# Altium integrated library Linear Technology Power Management LED Driver ICs.IntLib: 490 symbols (part 37 of 48)
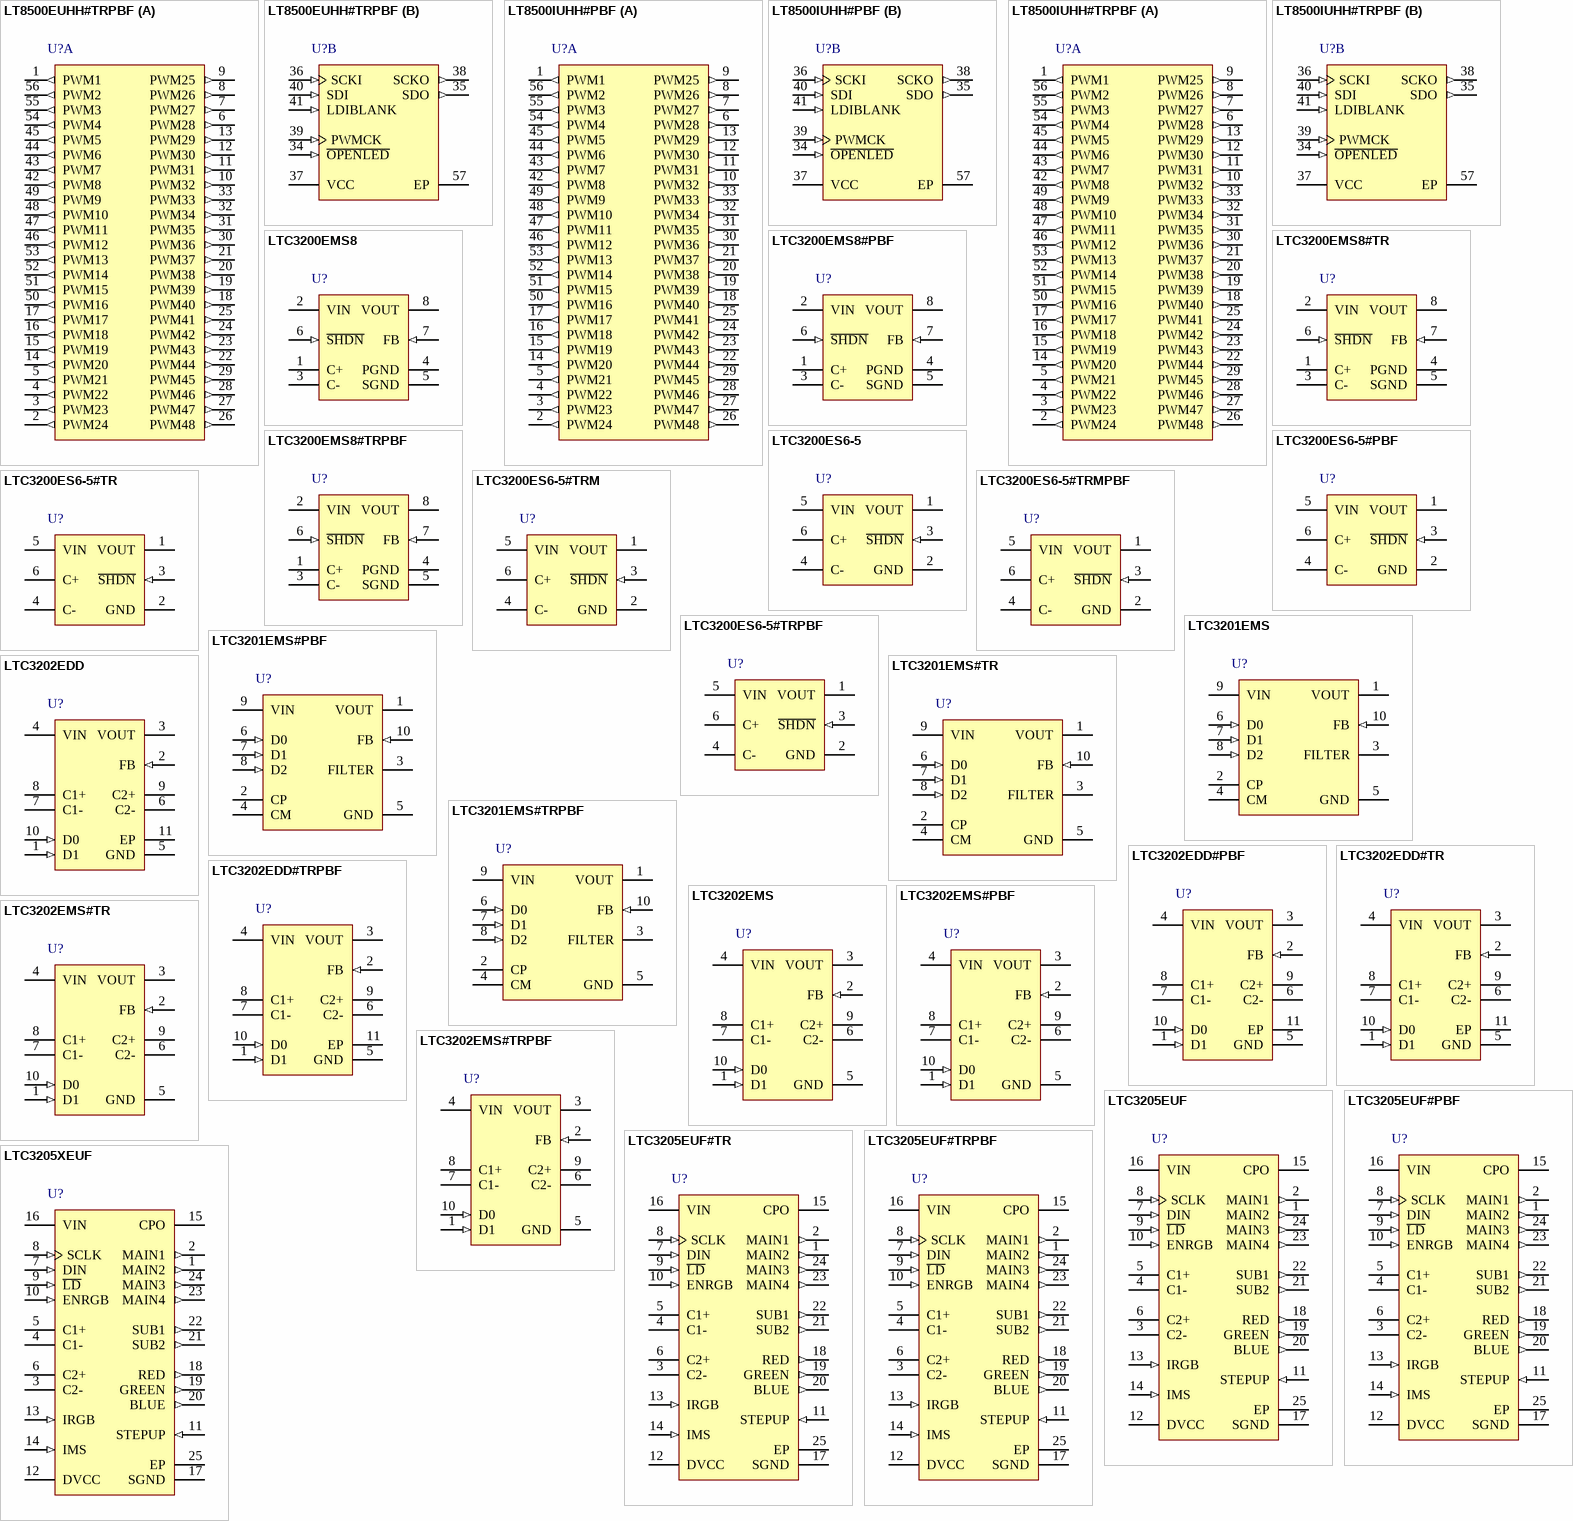
[diagram p56: symbols LT8500EUHH#TRPBF to LTC3205XEUF]

## LTC3201EMS#PBF
designator U?
Ultralow Noise, White LED Driver, 2.7 to 4.5 V Vin, 4.5 V Vout MAX, 10-pin SOP (MS-10), -40 to 85 degC, Pb-Free; Manufacturer: Linear Technology; PartNumber: LTC3201EMS#PBF; Topology: Charge Pump, LED Driver; Vin Min(V): 2.7; PackageVersion: Rev. E, 06/2010; PackageReference: MS-10; PackageDescription: 10-Pin Plastic MSOP, Body 3 x 3 mm, Pitch 0.5 mm; Supplier 1: Digi-Key; Supplier Part Number 1: LTC3201EMS#PBF-ND; RoHS: TRUE; Mounting Technology: Surface Mount; ComponentLink1Description: Manufacturer URL; ComponentLink1URL: http://www.linear.com/; ComponentLink2Description: Datasheet; ComponentLink2URL: http://cds.linear.com/docs/en/datasheet/3201f.pdf; ComponentLink3Description: Package Specification; ComponentLink3URL: http://cds.linear.com/docs/en/packaging/05081661_F_MS.pdf
footprint LT-MS-10_N (SOP, 10-Leads, Body 3.1x3.1mm, Pitch 0.5mm, IPC Medium Density)
footprint LT-MS-10_L (SOP, 10-Leads, Body 3.1x3.1mm, Pitch 0.5mm, IPC High Density)
footprint LT-MS-10_M (SOP, 10-Leads, Body 3.1x3.1mm, Pitch 0.5mm, IPC Low Density)
pins: 1 VOUT (power) "Charge Pump Output. Bypass with a 1uF ceramic capacitor to GND.", 2 CP "Flying Capacitor Positive Terminal.", 3 FILTER "Input Noise Filter Terminal. Bypass with a 0.22uF high resonant frequency ceramic capacitor to GND. Place filter capacitor less than 1/8" from device.", 4 CM "Flying Capacitor Negative Terminal.", 5 GND (power) "Ground. Connect to a ground plane for best performance.", 6 D0 (in) "Current Control DAC LSB Input.", 7 D1 (in) "Current Control DAC Bit 1 Input.", 8 D2 (in) "Current Control DAC MSB Input. Inputs D0 to D2 program a 3-bit DAC output which is used as the internal reference voltage. The DAC output reference voltage is used to regulate amount of current flowing through the LEDs. An (See Datasheet)", 9 VIN (power) "Input Voltage. VIN may be between 2.7V and 4.5V. Bypass VIN with a 1uF low ESR capacitor to ground.", 10 FB (in) "Charge Pump Feedback Input. This pin acts as a sense pin for IOUT. Connect a sense resistor between FB and GND to set the output current. IOUT will be adjusted until VFB = internal DAC output reference."

## LTC3201EMS#TR
designator U?
Ultralow Noise, White LED Driver, 2.7 to 4.5 V Vin, 4.5 V Vout MAX, 10-pin SOP (MS-10), -40 to 85 degC, Tape and Reel; Manufacturer: Linear Technology; PartNumber: LTC3201EMS#TR; Topology: Charge Pump, LED Driver; Vin Min(V): 2.7; PackageVersion: Rev. E, 06/2010; PackageReference: MS-10; PackageDescription: 10-Pin Plastic MSOP, Body 3 x 3 mm, Pitch 0.5 mm; Supplier 1: Digi-Key; Supplier Part Number 1: LTC3201EMSTR-ND; Packing: Tape and Reel; RoHS: FALSE; Mounting Technology: Surface Mount; ComponentLink1Description: Manufacturer URL; ComponentLink1URL: http://www.linear.com/; ComponentLink2Description: Datasheet; ComponentLink2URL: http://cds.linear.com/docs/en/datasheet/3201f.pdf; ComponentLink3Description: Package Specification; ComponentLink3URL: http://cds.linear.com/docs/en/packaging/05081661_F_MS.pdf
footprint LT-MS-10_N (SOP, 10-Leads, Body 3.1x3.1mm, Pitch 0.5mm, IPC Medium Density)
footprint LT-MS-10_L (SOP, 10-Leads, Body 3.1x3.1mm, Pitch 0.5mm, IPC High Density)
footprint LT-MS-10_M (SOP, 10-Leads, Body 3.1x3.1mm, Pitch 0.5mm, IPC Low Density)
pins: 1 VOUT (power) "Charge Pump Output. Bypass with a 1uF ceramic capacitor to GND.", 2 CP "Flying Capacitor Positive Terminal.", 3 FILTER "Input Noise Filter Terminal. Bypass with a 0.22uF high resonant frequency ceramic capacitor to GND. Place filter capacitor less than 1/8" from device.", 4 CM "Flying Capacitor Negative Terminal.", 5 GND (power) "Ground. Connect to a ground plane for best performance.", 6 D0 (in) "Current Control DAC LSB Input.", 7 D1 (in) "Current Control DAC Bit 1 Input.", 8 D2 (in) "Current Control DAC MSB Input. Inputs D0 to D2 program a 3-bit DAC output which is used as the internal reference voltage. The DAC output reference voltage is used to regulate amount of current flowing through the LEDs. An (See Datasheet)", 9 VIN (power) "Input Voltage. VIN may be between 2.7V and 4.5V. Bypass VIN with a 1uF low ESR capacitor to ground.", 10 FB (in) "Charge Pump Feedback Input. This pin acts as a sense pin for IOUT. Connect a sense resistor between FB and GND to set the output current. IOUT will be adjusted until VFB = internal DAC output reference."

## LTC3201EMS#TRPBF
designator U?
Ultralow Noise, White LED Driver, 2.7 to 4.5 V Vin, 4.5 V Vout MAX, 10-pin SOP (MS-10), -40 to 85 degC, Pb-Free, Tape and Reel; Manufacturer: Linear Technology; PartNumber: LTC3201EMS#TRPBF; Topology: Charge Pump, LED Driver; Vin Min(V): 2.7; PackageVersion: Rev. E, 06/2010; PackageReference: MS-10; PackageDescription: 10-Pin Plastic MSOP, Body 3 x 3 mm, Pitch 0.5 mm; Supplier 1: Digi-Key; Supplier Part Number 1: LTC3201EMS#TRPBF-ND; Packing: Tape and Reel; RoHS: TRUE; Mounting Technology: Surface Mount; ComponentLink1Description: Manufacturer URL; ComponentLink1URL: http://www.linear.com/; ComponentLink2Description: Datasheet; ComponentLink2URL: http://cds.linear.com/docs/en/datasheet/3201f.pdf; ComponentLink3Description: Package Specification; ComponentLink3URL: http://cds.linear.com/docs/en/packaging/05081661_F_MS.pdf
footprint LT-MS-10_N (SOP, 10-Leads, Body 3.1x3.1mm, Pitch 0.5mm, IPC Medium Density)
footprint LT-MS-10_L (SOP, 10-Leads, Body 3.1x3.1mm, Pitch 0.5mm, IPC High Density)
footprint LT-MS-10_M (SOP, 10-Leads, Body 3.1x3.1mm, Pitch 0.5mm, IPC Low Density)
pins: 1 VOUT (power) "Charge Pump Output. Bypass with a 1uF ceramic capacitor to GND.", 2 CP "Flying Capacitor Positive Terminal.", 3 FILTER "Input Noise Filter Terminal. Bypass with a 0.22uF high resonant frequency ceramic capacitor to GND. Place filter capacitor less than 1/8" from device.", 4 CM "Flying Capacitor Negative Terminal.", 5 GND (power) "Ground. Connect to a ground plane for best performance.", 6 D0 (in) "Current Control DAC LSB Input.", 7 D1 (in) "Current Control DAC Bit 1 Input.", 8 D2 (in) "Current Control DAC MSB Input. Inputs D0 to D2 program a 3-bit DAC output which is used as the internal reference voltage. The DAC output reference voltage is used to regulate amount of current flowing through the LEDs. An (See Datasheet)", 9 VIN (power) "Input Voltage. VIN may be between 2.7V and 4.5V. Bypass VIN with a 1uF low ESR capacitor to ground.", 10 FB (in) "Charge Pump Feedback Input. This pin acts as a sense pin for IOUT. Connect a sense resistor between FB and GND to set the output current. IOUT will be adjusted until VFB = internal DAC output reference."

## LTC3202EDD
designator U?
Low Noise, Fractional White LED Driver, 2.7 to 4.5 V Vin, 4.5 V Vout MAX, 10-pin SON (DD-10), -40 to 85 degC; Manufacturer: Linear Technology; PartNumber: LTC3202EDD; Topology: Charge Pump, LED Driver; Vin Min(V): 2.7; PackageVersion: Rev. C, 06/2010; PackageReference: DD-10; PackageDescription: 10-Pin Plastic DFN, Body 3 x 3 mm, Pitch 0.5 mm; Supplier 1: Digi-Key; Supplier Part Number 1: LTC3202EDD-ND; RoHS: FALSE; Mounting Technology: Surface Mount; Code_JEDEC: MO-229; ComponentLink1Description: Manufacturer URL; ComponentLink1URL: http://www.linear.com/; ComponentLink2Description: Datasheet; ComponentLink2URL: http://cds.linear.com/docs/en/datasheet/3202fa.pdf; ComponentLink3Description: Package Specification; ComponentLink3URL: http://cds.linear.com/docs/en/packaging/DFN_10_05-08-1699.pdf
footprint LT-DD-10_V (SON, 10-Leads, Body 3x3mm, Pitch 0.5mm, Thermal Pad 2.38x1.65mm)
pins: 1 D1 (in) "Control Inputs. D0 and D1 determine the set point voltage of the FB pin (see Table 1).", 2 FB (in) "FB is the Feedback Input for the Regulation Control Loop.", 3 VOUT (power) "VOUT is the Output of the Charge Pump. A low impedance 1uF X5R or X7R ceramic capacitor is required from VOUT to GND.", 4 VIN (power) "Input Supply Voltage. VIN should be bypassed with a 1uF to 4.7uF low impedance ceramic capacitor.", 5 GND (power) "Ground for the Charge Pump and Control Circuitry. This pin should be connected directly to a low impedance ground plane.", 6 C2- "Charge Pump Flying Capacitor Pins. A 1uF X5R or X7R ceramic capacitor should be connected from C1+ to C1- and from C2+ to C2-.", 7 C1- "Charge Pump Flying Capacitor Pins. A 1uF X5R or X7R ceramic capacitor should be connected from C1+ to C1- and from C2+ to C2-.", 8 C1+ "Charge Pump Flying Capacitor Pins. A 1uF X5R or X7R ceramic capacitor should be connected from C1+ to C1- and from C2+ to C2-.", 9 C2+ "Charge Pump Flying Capacitor Pins. A 1uF X5R or X7R ceramic capacitor should be connected from C1+ to C1- and from C2+ to C2-.", 10 D0 (in) "Control Inputs. D0 and D1 determine the set point voltage of the FB pin (see Table 1).", 11 EP (power) "Power Ground for the Charge Pump. This pin must be connected directly to a low impedance ground plane."

## LTC3202EDD#PBF
designator U?
Low Noise, Fractional White LED Driver, 2.7 to 4.5 V Vin, 4.5 V Vout MAX, 10-pin SON (DD-10), -40 to 85 degC, Pb-Free; Manufacturer: Linear Technology; PartNumber: LTC3202EDD#PBF; Topology: Charge Pump, LED Driver; Vin Min(V): 2.7; PackageVersion: Rev. C, 06/2010; PackageReference: DD-10; PackageDescription: 10-Pin Plastic DFN, Body 3 x 3 mm, Pitch 0.5 mm; Supplier 1: Digi-Key; Supplier Part Number 1: LTC3202EDD#PBF-ND; Supplier 2: Farnell; Supplier Part Number 2: 1866348; Supplier 3: Newark; Supplier Part Number 3: 56M7330; RoHS: TRUE; Mounting Technology: Surface Mount; Code_JEDEC: MO-229; ComponentLink1Description: Manufacturer URL; ComponentLink1URL: http://www.linear.com/; ComponentLink2Description: Datasheet; ComponentLink2URL: http://cds.linear.com/docs/en/datasheet/3202fa.pdf; ComponentLink3Description: Package Specification; ComponentLink3URL: http://cds.linear.com/docs/en/packaging/DFN_10_05-08-1699.pdf
footprint LT-DD-10_V (SON, 10-Leads, Body 3x3mm, Pitch 0.5mm, Thermal Pad 2.38x1.65mm)
pins: 1 D1 (in) "Control Inputs. D0 and D1 determine the set point voltage of the FB pin (see Table 1).", 2 FB (in) "FB is the Feedback Input for the Regulation Control Loop.", 3 VOUT (power) "VOUT is the Output of the Charge Pump. A low impedance 1uF X5R or X7R ceramic capacitor is required from VOUT to GND.", 4 VIN (power) "Input Supply Voltage. VIN should be bypassed with a 1uF to 4.7uF low impedance ceramic capacitor.", 5 GND (power) "Ground for the Charge Pump and Control Circuitry. This pin should be connected directly to a low impedance ground plane.", 6 C2- "Charge Pump Flying Capacitor Pins. A 1uF X5R or X7R ceramic capacitor should be connected from C1+ to C1- and from C2+ to C2-.", 7 C1- "Charge Pump Flying Capacitor Pins. A 1uF X5R or X7R ceramic capacitor should be connected from C1+ to C1- and from C2+ to C2-.", 8 C1+ "Charge Pump Flying Capacitor Pins. A 1uF X5R or X7R ceramic capacitor should be connected from C1+ to C1- and from C2+ to C2-.", 9 C2+ "Charge Pump Flying Capacitor Pins. A 1uF X5R or X7R ceramic capacitor should be connected from C1+ to C1- and from C2+ to C2-.", 10 D0 (in) "Control Inputs. D0 and D1 determine the set point voltage of the FB pin (see Table 1).", 11 EP (power) "Power Ground for the Charge Pump. This pin must be connected directly to a low impedance ground plane."

## LTC3202EDD#TR
designator U?
Low Noise, Fractional White LED Driver, 2.7 to 4.5 V Vin, 4.5 V Vout MAX, 10-pin SON (DD-10), -40 to 85 degC, Tape and Reel; Manufacturer: Linear Technology; PartNumber: LTC3202EDD#TR; Topology: Charge Pump, LED Driver; Vin Min(V): 2.7; PackageVersion: Rev. C, 06/2010; PackageReference: DD-10; PackageDescription: 10-Pin Plastic DFN, Body 3 x 3 mm, Pitch 0.5 mm; Supplier 1: Digi-Key; Supplier Part Number 1: LTC3202EDD#TR-ND; Packing: Tape and Reel; RoHS: FALSE; Mounting Technology: Surface Mount; Code_JEDEC: MO-229; ComponentLink1Description: Manufacturer URL; ComponentLink1URL: http://www.linear.com/; ComponentLink2Description: Datasheet; ComponentLink2URL: http://cds.linear.com/docs/en/datasheet/3202fa.pdf; ComponentLink3Description: Package Specification; ComponentLink3URL: http://cds.linear.com/docs/en/packaging/DFN_10_05-08-1699.pdf
footprint LT-DD-10_V (SON, 10-Leads, Body 3x3mm, Pitch 0.5mm, Thermal Pad 2.38x1.65mm)
pins: 1 D1 (in) "Control Inputs. D0 and D1 determine the set point voltage of the FB pin (see Table 1).", 2 FB (in) "FB is the Feedback Input for the Regulation Control Loop.", 3 VOUT (power) "VOUT is the Output of the Charge Pump. A low impedance 1uF X5R or X7R ceramic capacitor is required from VOUT to GND.", 4 VIN (power) "Input Supply Voltage. VIN should be bypassed with a 1uF to 4.7uF low impedance ceramic capacitor.", 5 GND (power) "Ground for the Charge Pump and Control Circuitry. This pin should be connected directly to a low impedance ground plane.", 6 C2- "Charge Pump Flying Capacitor Pins. A 1uF X5R or X7R ceramic capacitor should be connected from C1+ to C1- and from C2+ to C2-.", 7 C1- "Charge Pump Flying Capacitor Pins. A 1uF X5R or X7R ceramic capacitor should be connected from C1+ to C1- and from C2+ to C2-.", 8 C1+ "Charge Pump Flying Capacitor Pins. A 1uF X5R or X7R ceramic capacitor should be connected from C1+ to C1- and from C2+ to C2-.", 9 C2+ "Charge Pump Flying Capacitor Pins. A 1uF X5R or X7R ceramic capacitor should be connected from C1+ to C1- and from C2+ to C2-.", 10 D0 (in) "Control Inputs. D0 and D1 determine the set point voltage of the FB pin (see Table 1).", 11 EP (power) "Power Ground for the Charge Pump. This pin must be connected directly to a low impedance ground plane."

## LTC3202EDD#TRPBF
designator U?
Low Noise, Fractional White LED Driver, 2.7 to 4.5 V Vin, 4.5 V Vout MAX, 10-pin SON (DD-10), -40 to 85 degC, Pb-Free, Tape and Reel; Manufacturer: Linear Technology; PartNumber: LTC3202EDD#TRPBF; Topology: Charge Pump, LED Driver; Vin Min(V): 2.7; PackageVersion: Rev. C, 06/2010; PackageReference: DD-10; PackageDescription: 10-Pin Plastic DFN, Body 3 x 3 mm, Pitch 0.5 mm; Supplier 1: Digi-Key; Supplier Part Number 1: LTC3202EDD#TRPBF-ND; Packing: Tape and Reel; RoHS: TRUE; Mounting Technology: Surface Mount; Code_JEDEC: MO-229; ComponentLink1Description: Manufacturer URL; ComponentLink1URL: http://www.linear.com/; ComponentLink2Description: Datasheet; ComponentLink2URL: http://cds.linear.com/docs/en/datasheet/3202fa.pdf; ComponentLink3Description: Package Specification; ComponentLink3URL: http://cds.linear.com/docs/en/packaging/DFN_10_05-08-1699.pdf
footprint LT-DD-10_V (SON, 10-Leads, Body 3x3mm, Pitch 0.5mm, Thermal Pad 2.38x1.65mm)
pins: 1 D1 (in) "Control Inputs. D0 and D1 determine the set point voltage of the FB pin (see Table 1).", 2 FB (in) "FB is the Feedback Input for the Regulation Control Loop.", 3 VOUT (power) "VOUT is the Output of the Charge Pump. A low impedance 1uF X5R or X7R ceramic capacitor is required from VOUT to GND.", 4 VIN (power) "Input Supply Voltage. VIN should be bypassed with a 1uF to 4.7uF low impedance ceramic capacitor.", 5 GND (power) "Ground for the Charge Pump and Control Circuitry. This pin should be connected directly to a low impedance ground plane.", 6 C2- "Charge Pump Flying Capacitor Pins. A 1uF X5R or X7R ceramic capacitor should be connected from C1+ to C1- and from C2+ to C2-.", 7 C1- "Charge Pump Flying Capacitor Pins. A 1uF X5R or X7R ceramic capacitor should be connected from C1+ to C1- and from C2+ to C2-.", 8 C1+ "Charge Pump Flying Capacitor Pins. A 1uF X5R or X7R ceramic capacitor should be connected from C1+ to C1- and from C2+ to C2-.", 9 C2+ "Charge Pump Flying Capacitor Pins. A 1uF X5R or X7R ceramic capacitor should be connected from C1+ to C1- and from C2+ to C2-.", 10 D0 (in) "Control Inputs. D0 and D1 determine the set point voltage of the FB pin (see Table 1).", 11 EP (power) "Power Ground for the Charge Pump. This pin must be connected directly to a low impedance ground plane."

## LTC3202EMS
designator U?
Low Noise, Fractional White LED Driver, 2.7 to 4.5 V Vin, 4.5 V Vout MAX, 10-pin SOP (MS-10), -40 to 85 degC; Manufacturer: Linear Technology; PartNumber: LTC3202EMS; Topology: Charge Pump, LED Driver; Vin Min(V): 2.7; PackageVersion: Rev. E, 06/2010; PackageReference: MS-10; PackageDescription: 10-Pin Plastic MSOP, Body 3 x 3 mm, Pitch 0.5 mm; Supplier 1: Digi-Key; Supplier Part Number 1: LTC3202EMS-ND; RoHS: FALSE; Mounting Technology: Surface Mount; ComponentLink1Description: Manufacturer URL; ComponentLink1URL: http://www.linear.com/; ComponentLink2Description: Datasheet; ComponentLink2URL: http://cds.linear.com/docs/en/datasheet/3202fa.pdf; ComponentLink3Description: Package Specification; ComponentLink3URL: http://cds.linear.com/docs/en/packaging/05081661_F_MS.pdf
footprint LT-MS-10_N (SOP, 10-Leads, Body 3.1x3.1mm, Pitch 0.5mm, IPC Medium Density)
footprint LT-MS-10_L (SOP, 10-Leads, Body 3.1x3.1mm, Pitch 0.5mm, IPC High Density)
footprint LT-MS-10_M (SOP, 10-Leads, Body 3.1x3.1mm, Pitch 0.5mm, IPC Low Density)
pins: 1 D1 (in) "Control Inputs. D0 and D1 determine the set point voltage of the FB pin (see Table 1).", 2 FB (in) "FB is the Feedback Input for the Regulation Control Loop.", 3 VOUT (power) "VOUT is the Output of the Charge Pump. A low impedance 1uF X5R or X7R ceramic capacitor is required from VOUT to GND.", 4 VIN (power) "Input Supply Voltage. VIN should be bypassed with a 1uF to 4.7uF low impedance ceramic capacitor.", 5 GND (power) "Ground for the Charge Pump and Control Circuitry. This pin should be connected directly to a low impedance ground plane.", 6 C2- "Charge Pump Flying Capacitor Pins. A 1uF X5R or X7R ceramic capacitor should be connected from C1+ to C1- and from C2+ to C2-.", 7 C1- "Charge Pump Flying Capacitor Pins. A 1uF X5R or X7R ceramic capacitor should be connected from C1+ to C1- and from C2+ to C2-.", 8 C1+ "Charge Pump Flying Capacitor Pins. A 1uF X5R or X7R ceramic capacitor should be connected from C1+ to C1- and from C2+ to C2-.", 9 C2+ "Charge Pump Flying Capacitor Pins. A 1uF X5R or X7R ceramic capacitor should be connected from C1+ to C1- and from C2+ to C2-.", 10 D0 (in) "Control Inputs. D0 and D1 determine the set point voltage of the FB pin (see Table 1)."

## LTC3202EMS#PBF
designator U?
Low Noise, Fractional White LED Driver, 2.7 to 4.5 V Vin, 4.5 V Vout MAX, 10-pin SOP (MS-10), -40 to 85 degC, Pb-Free; Manufacturer: Linear Technology; PartNumber: LTC3202EMS#PBF; Topology: Charge Pump, LED Driver; Vin Min(V): 2.7; PackageVersion: Rev. E, 06/2010; PackageReference: MS-10; PackageDescription: 10-Pin Plastic MSOP, Body 3 x 3 mm, Pitch 0.5 mm; Supplier 1: Digi-Key; Supplier Part Number 1: LTC3202EMS#PBF-ND; RoHS: TRUE; Mounting Technology: Surface Mount; ComponentLink1Description: Manufacturer URL; ComponentLink1URL: http://www.linear.com/; ComponentLink2Description: Datasheet; ComponentLink2URL: http://cds.linear.com/docs/en/datasheet/3202fa.pdf; ComponentLink3Description: Package Specification; ComponentLink3URL: http://cds.linear.com/docs/en/packaging/05081661_F_MS.pdf
footprint LT-MS-10_N (SOP, 10-Leads, Body 3.1x3.1mm, Pitch 0.5mm, IPC Medium Density)
footprint LT-MS-10_L (SOP, 10-Leads, Body 3.1x3.1mm, Pitch 0.5mm, IPC High Density)
footprint LT-MS-10_M (SOP, 10-Leads, Body 3.1x3.1mm, Pitch 0.5mm, IPC Low Density)
pins: 1 D1 (in) "Control Inputs. D0 and D1 determine the set point voltage of the FB pin (see Table 1).", 2 FB (in) "FB is the Feedback Input for the Regulation Control Loop.", 3 VOUT (power) "VOUT is the Output of the Charge Pump. A low impedance 1uF X5R or X7R ceramic capacitor is required from VOUT to GND.", 4 VIN (power) "Input Supply Voltage. VIN should be bypassed with a 1uF to 4.7uF low impedance ceramic capacitor.", 5 GND (power) "Ground for the Charge Pump and Control Circuitry. This pin should be connected directly to a low impedance ground plane.", 6 C2- "Charge Pump Flying Capacitor Pins. A 1uF X5R or X7R ceramic capacitor should be connected from C1+ to C1- and from C2+ to C2-.", 7 C1- "Charge Pump Flying Capacitor Pins. A 1uF X5R or X7R ceramic capacitor should be connected from C1+ to C1- and from C2+ to C2-.", 8 C1+ "Charge Pump Flying Capacitor Pins. A 1uF X5R or X7R ceramic capacitor should be connected from C1+ to C1- and from C2+ to C2-.", 9 C2+ "Charge Pump Flying Capacitor Pins. A 1uF X5R or X7R ceramic capacitor should be connected from C1+ to C1- and from C2+ to C2-.", 10 D0 (in) "Control Inputs. D0 and D1 determine the set point voltage of the FB pin (see Table 1)."

## LTC3202EMS#TR
designator U?
Low Noise, Fractional White LED Driver, 2.7 to 4.5 V Vin, 4.5 V Vout MAX, 10-pin SOP (MS-10), -40 to 85 degC, Tape and Reel; Manufacturer: Linear Technology; PartNumber: LTC3202EMS#TR; Topology: Charge Pump, LED Driver; Vin Min(V): 2.7; PackageVersion: Rev. E, 06/2010; PackageReference: MS-10; PackageDescription: 10-Pin Plastic MSOP, Body 3 x 3 mm, Pitch 0.5 mm; Supplier 1: Digi-Key; Supplier Part Number 1: LTC3202EMSTR-ND; Packing: Tape and Reel; RoHS: FALSE; Mounting Technology: Surface Mount; ComponentLink1Description: Manufacturer URL; ComponentLink1URL: http://www.linear.com/; ComponentLink2Description: Datasheet; ComponentLink2URL: http://cds.linear.com/docs/en/datasheet/3202fa.pdf; ComponentLink3Description: Package Specification; ComponentLink3URL: http://cds.linear.com/docs/en/packaging/05081661_F_MS.pdf
footprint LT-MS-10_N (SOP, 10-Leads, Body 3.1x3.1mm, Pitch 0.5mm, IPC Medium Density)
footprint LT-MS-10_L (SOP, 10-Leads, Body 3.1x3.1mm, Pitch 0.5mm, IPC High Density)
footprint LT-MS-10_M (SOP, 10-Leads, Body 3.1x3.1mm, Pitch 0.5mm, IPC Low Density)
pins: 1 D1 (in) "Control Inputs. D0 and D1 determine the set point voltage of the FB pin (see Table 1).", 2 FB (in) "FB is the Feedback Input for the Regulation Control Loop.", 3 VOUT (power) "VOUT is the Output of the Charge Pump. A low impedance 1uF X5R or X7R ceramic capacitor is required from VOUT to GND.", 4 VIN (power) "Input Supply Voltage. VIN should be bypassed with a 1uF to 4.7uF low impedance ceramic capacitor.", 5 GND (power) "Ground for the Charge Pump and Control Circuitry. This pin should be connected directly to a low impedance ground plane.", 6 C2- "Charge Pump Flying Capacitor Pins. A 1uF X5R or X7R ceramic capacitor should be connected from C1+ to C1- and from C2+ to C2-.", 7 C1- "Charge Pump Flying Capacitor Pins. A 1uF X5R or X7R ceramic capacitor should be connected from C1+ to C1- and from C2+ to C2-.", 8 C1+ "Charge Pump Flying Capacitor Pins. A 1uF X5R or X7R ceramic capacitor should be connected from C1+ to C1- and from C2+ to C2-.", 9 C2+ "Charge Pump Flying Capacitor Pins. A 1uF X5R or X7R ceramic capacitor should be connected from C1+ to C1- and from C2+ to C2-.", 10 D0 (in) "Control Inputs. D0 and D1 determine the set point voltage of the FB pin (see Table 1)."

## LTC3202EMS#TRPBF
designator U?
Low Noise, Fractional White LED Driver, 2.7 to 4.5 V Vin, 4.5 V Vout MAX, 10-pin SOP (MS-10), -40 to 85 degC, Pb-Free, Tape and Reel; Manufacturer: Linear Technology; PartNumber: LTC3202EMS#TRPBF; Topology: Charge Pump, LED Driver; Vin Min(V): 2.7; PackageVersion: Rev. E, 06/2010; PackageReference: MS-10; PackageDescription: 10-Pin Plastic MSOP, Body 3 x 3 mm, Pitch 0.5 mm; Supplier 1: Digi-Key; Supplier Part Number 1: LTC3202EMS#TRPBF-ND; Packing: Tape and Reel; RoHS: TRUE; Mounting Technology: Surface Mount; ComponentLink1Description: Manufacturer URL; ComponentLink1URL: http://www.linear.com/; ComponentLink2Description: Datasheet; ComponentLink2URL: http://cds.linear.com/docs/en/datasheet/3202fa.pdf; ComponentLink3Description: Package Specification; ComponentLink3URL: http://cds.linear.com/docs/en/packaging/05081661_F_MS.pdf
footprint LT-MS-10_N (SOP, 10-Leads, Body 3.1x3.1mm, Pitch 0.5mm, IPC Medium Density)
footprint LT-MS-10_L (SOP, 10-Leads, Body 3.1x3.1mm, Pitch 0.5mm, IPC High Density)
footprint LT-MS-10_M (SOP, 10-Leads, Body 3.1x3.1mm, Pitch 0.5mm, IPC Low Density)
pins: 1 D1 (in) "Control Inputs. D0 and D1 determine the set point voltage of the FB pin (see Table 1).", 2 FB (in) "FB is the Feedback Input for the Regulation Control Loop.", 3 VOUT (power) "VOUT is the Output of the Charge Pump. A low impedance 1uF X5R or X7R ceramic capacitor is required from VOUT to GND.", 4 VIN (power) "Input Supply Voltage. VIN should be bypassed with a 1uF to 4.7uF low impedance ceramic capacitor.", 5 GND (power) "Ground for the Charge Pump and Control Circuitry. This pin should be connected directly to a low impedance ground plane.", 6 C2- "Charge Pump Flying Capacitor Pins. A 1uF X5R or X7R ceramic capacitor should be connected from C1+ to C1- and from C2+ to C2-.", 7 C1- "Charge Pump Flying Capacitor Pins. A 1uF X5R or X7R ceramic capacitor should be connected from C1+ to C1- and from C2+ to C2-.", 8 C1+ "Charge Pump Flying Capacitor Pins. A 1uF X5R or X7R ceramic capacitor should be connected from C1+ to C1- and from C2+ to C2-.", 9 C2+ "Charge Pump Flying Capacitor Pins. A 1uF X5R or X7R ceramic capacitor should be connected from C1+ to C1- and from C2+ to C2-.", 10 D0 (in) "Control Inputs. D0 and D1 determine the set point voltage of the FB pin (see Table 1)."

## LTC3205EUF
designator U?
Drives 4 Main LEDs, 2 Sub Display, 1 RGB, 2.8 to 4.5 V Vin, 4.5 V Vout MAX, 24-pin QFN (UF-24), -40 to 85 degC; Manufacturer: Linear Technology; PartNumber: LTC3205EUF; Topology: Charge Pump, LED Driver; Vin Min(V): 2.8; PackageVersion: Rev. B, 02/2012; PackageReference: UF24; PackageDescription: 24-Pin Plastic QFN, Body 4 x 4 mm, Pitch 0.5 mm; Supplier 1: Digi-Key; Supplier Part Number 1: LTC3205EUF-ND; RoHS: FALSE; Mounting Technology: Surface Mount; Code_JEDEC: MO-220; ComponentLink1Description: Manufacturer URL; ComponentLink1URL: http://www.linear.com/; ComponentLink2Description: Datasheet; ComponentLink2URL: http://cds.linear.com/docs/en/datasheet/3205f.pdf; ComponentLink3Description: Package Specification; ComponentLink3URL: http://cds.linear.com/docs/en/packaging/%28UF24%29%20QFN%2005-08-1697%20Rev%20B.pdf
footprint LT-UF-24_N (QFN, 24-Leads, Body 4.1x4.1mm, Pitch 0.5mm, Thermal Pad 2.45x2.45mm, IPC Medium Density)
footprint LT-UF-24_L (QFN, 24-Leads, Body 4.1x4.1mm, Pitch 0.5mm, Thermal Pad 2.45x2.45mm, IPC High Density)
footprint LT-UF-24_M (QFN, 24-Leads, Body 4.1x4.1mm, Pitch 0.5mm, Thermal Pad 2.45x2.45mm, IPC Low Density)
pins: 1 MAIN2 (out) "Current Source Outputs for the Main Display White LEDs. The current for the main display is controlled by the resistor on the IMS pin. The LEDs on the main display can be set to 100%, 50%, 25% or 0% of full-scale programmed (See Datasheet)", 2 MAIN1 (out) "Current Source Outputs for the Main Display White LEDs. The current for the main display is controlled by the resistor on the IMS pin. The LEDs on the main display can be set to 100%, 50%, 25% or 0% of full-scale programmed (See Datasheet)", 3 C2- "Charge Pump Flying Capacitor Pins. A 1uF X7R or X5R ceramic capacitor should be connected from C1+ to C1- and another from C2+ to C2-.", 4 C1- "Charge Pump Flying Capacitor Pins. A 1uF X7R or X5R ceramic capacitor should be connected from C1+ to C1- and another from C2+ to C2-.", 5 C1+ "Charge Pump Flying Capacitor Pins. A 1uF X7R or X5R ceramic capacitor should be connected from C1+ to C1- and another from C2+ to C2-.", 6 C2+ "Charge Pump Flying Capacitor Pins. A 1uF X7R or X5R ceramic capacitor should be connected from C1+ to C1- and another from C2+ to C2-.", 7 DIN (in) "Input Data for the 16-Bit Serial Port. Serial data is shifted in one bit per clock to control the LTC3205 (see Table 1). The logic level for DIN is referenced to DVCC.", 8 SCLK (in) "Clock Input for the 16-Bit Serial Port (see Figure 3). The logic level for SCLK is referenced to DVCC.", 9 ~{LD} (in) "Load Input for the 16-Bit Serial Port. Command data is loaded into the command latch on the falling edge of L\D\ (see Figure 3). The logic level for L\D\ is referenced to DVCC.", 10 ENRGB (in) "This pin is used to enable and disable the red, green and blue current sources. Once ENRGB is brought high, the LTC3205 illuminates the RGB display with the color combination that was previously programmed via the serial (See Datasheet)", 11 STEPUP (in) "A logic high on this pin forces the LTC3205’s charge pump to operate in 2:3 step-up mode, thereby eliminating any possibility of the device switching from 1:1 mode to 2:3 mode during critical communication periods. Th(See Datasheet)", 12 DVCC (power) "This pin sets the logic reference level of the LTC3205.", 13 IRGB (in) "This pin controls the amount of LED current at the RED, GREEN and BLUE LED pins. The IRGB pin servos to 1.223V when there is a resistor to ground. The current in the RED, GREEN and BLUE LEDs will be 400 times the current at (See Datasheet)", 14 IMS (in) "This pin controls the maximum amount of LED current in both the main and sub LED displays. The IMS pin servos to 1.223V when there is a resistor to ground. The currents in the main and sub display LEDs will be 100, 200 or (See Datasheet)", 15 CPO (power) "Output of the Charge Pump. This output should be used to power white, blue and "ture" green LEDs. Red LEDs can be powered from VIN or CPO. An X5R or X7R low impedance (ceramic) 1uF charge storage capacitor is required(See Datasheet)", 16 VIN (power) "Supply Voltage for the Charge Pump. The VIN pin should be connected directly to the battery and bypassed with a 1uF X5R or X7R ceramic capacitor.", 17 SGND (power) "Ground for the Control Logic. This pin should be connected directly to a low impedance ground plane.", 18 RED (out) "Current Source Outputs for the RGB Illuminator LEDs. The currents for the RGB LEDs are controlled by the resistor on the IRGB pin. The RGB LEDs can independently be set to any duty cycle from 0/15 through 15/15 under (See Datasheet)", 19 GREEN (out) "Current Source Outputs for the RGB Illuminator LEDs. The currents for the RGB LEDs are controlled by the resistor on the IRGB pin. The RGB LEDs can independently be set to any duty cycle from 0/15 through 15/15 under (See Datasheet)", 20 BLUE (out) "Current Source Outputs for the RGB Illuminator LEDs. The currents for the RGB LEDs are controlled by the resistor on the IRGB pin. The RGB LEDs can independently be set to any duty cycle from 0/15 through 15/15 under (See Datasheet)", 21 SUB2 (out) "Current Source Outputs for the Sub Display White LEDs. The current for the sub display is controlled by the resistor on the IMS pin. The LEDs on the sub display can be set to 100%, 50%, 25% or 0% of full scale under software (See Datasheet)", 22 SUB1 (out) "Current Source Outputs for the Sub Display White LEDs. The current for the sub display is controlled by the resistor on the IMS pin. The LEDs on the sub display can be set to 100%, 50%, 25% or 0% of full scale under software (See Datasheet)", 23 MAIN4 (out) "Current Source Outputs for the Main Display White LEDs. The current for the main display is controlled by the resistor on the IMS pin. The LEDs on the main display can be set to 100%, 50%, 25% or 0% of full-scale programmed (See Datasheet)", 24 MAIN3 (out) "Current Source Outputs for the Main Display White LEDs. The current for the main display is controlled by the resistor on the IMS pin. The LEDs on the main display can be set to 100%, 50%, 25% or 0% of full-scale programmed (See Datasheet)", 25 EP (power) "Power Ground for the Charge Pump. The exposed pad should be connected directly to a low impedance ground plane."

## LTC3205EUF#PBF
designator U?
Drives 4 Main LEDs, 2 Sub Display, 1 RGB, 2.8 to 4.5 V Vin, 4.5 V Vout MAX, 24-pin QFN (UF-24), -40 to 85 degC, Pb-Free; Manufacturer: Linear Technology; PartNumber: LTC3205EUF#PBF; Topology: Charge Pump, LED Driver; Vin Min(V): 2.8; PackageVersion: Rev. B, 02/2012; PackageReference: UF24; PackageDescription: 24-Pin Plastic QFN, Body 4 x 4 mm, Pitch 0.5 mm; Supplier 1: Digi-Key; Supplier Part Number 1: LTC3205EUF#PBF-ND; RoHS: TRUE; Mounting Technology: Surface Mount; Code_JEDEC: MO-220; ComponentLink1Description: Manufacturer URL; ComponentLink1URL: http://www.linear.com/; ComponentLink2Description: Datasheet; ComponentLink2URL: http://cds.linear.com/docs/en/datasheet/3205f.pdf; ComponentLink3Description: Package Specification; ComponentLink3URL: http://cds.linear.com/docs/en/packaging/%28UF24%29%20QFN%2005-08-1697%20Rev%20B.pdf
footprint LT-UF-24_N (QFN, 24-Leads, Body 4.1x4.1mm, Pitch 0.5mm, Thermal Pad 2.45x2.45mm, IPC Medium Density)
footprint LT-UF-24_L (QFN, 24-Leads, Body 4.1x4.1mm, Pitch 0.5mm, Thermal Pad 2.45x2.45mm, IPC High Density)
footprint LT-UF-24_M (QFN, 24-Leads, Body 4.1x4.1mm, Pitch 0.5mm, Thermal Pad 2.45x2.45mm, IPC Low Density)
pins: 1 MAIN2 (out) "Current Source Outputs for the Main Display White LEDs. The current for the main display is controlled by the resistor on the IMS pin. The LEDs on the main display can be set to 100%, 50%, 25% or 0% of full-scale programmed (See Datasheet)", 2 MAIN1 (out) "Current Source Outputs for the Main Display White LEDs. The current for the main display is controlled by the resistor on the IMS pin. The LEDs on the main display can be set to 100%, 50%, 25% or 0% of full-scale programmed (See Datasheet)", 3 C2- "Charge Pump Flying Capacitor Pins. A 1uF X7R or X5R ceramic capacitor should be connected from C1+ to C1- and another from C2+ to C2-.", 4 C1- "Charge Pump Flying Capacitor Pins. A 1uF X7R or X5R ceramic capacitor should be connected from C1+ to C1- and another from C2+ to C2-.", 5 C1+ "Charge Pump Flying Capacitor Pins. A 1uF X7R or X5R ceramic capacitor should be connected from C1+ to C1- and another from C2+ to C2-.", 6 C2+ "Charge Pump Flying Capacitor Pins. A 1uF X7R or X5R ceramic capacitor should be connected from C1+ to C1- and another from C2+ to C2-.", 7 DIN (in) "Input Data for the 16-Bit Serial Port. Serial data is shifted in one bit per clock to control the LTC3205 (see Table 1). The logic level for DIN is referenced to DVCC.", 8 SCLK (in) "Clock Input for the 16-Bit Serial Port (see Figure 3). The logic level for SCLK is referenced to DVCC.", 9 ~{LD} (in) "Load Input for the 16-Bit Serial Port. Command data is loaded into the command latch on the falling edge of L\D\ (see Figure 3). The logic level for L\D\ is referenced to DVCC.", 10 ENRGB (in) "This pin is used to enable and disable the red, green and blue current sources. Once ENRGB is brought high, the LTC3205 illuminates the RGB display with the color combination that was previously programmed via the serial (See Datasheet)", 11 STEPUP (in) "A logic high on this pin forces the LTC3205’s charge pump to operate in 2:3 step-up mode, thereby eliminating any possibility of the device switching from 1:1 mode to 2:3 mode during critical communication periods. Th(See Datasheet)", 12 DVCC (power) "This pin sets the logic reference level of the LTC3205.", 13 IRGB (in) "This pin controls the amount of LED current at the RED, GREEN and BLUE LED pins. The IRGB pin servos to 1.223V when there is a resistor to ground. The current in the RED, GREEN and BLUE LEDs will be 400 times the current at (See Datasheet)", 14 IMS (in) "This pin controls the maximum amount of LED current in both the main and sub LED displays. The IMS pin servos to 1.223V when there is a resistor to ground. The currents in the main and sub display LEDs will be 100, 200 or (See Datasheet)", 15 CPO (power) "Output of the Charge Pump. This output should be used to power white, blue and "ture" green LEDs. Red LEDs can be powered from VIN or CPO. An X5R or X7R low impedance (ceramic) 1uF charge storage capacitor is required(See Datasheet)", 16 VIN (power) "Supply Voltage for the Charge Pump. The VIN pin should be connected directly to the battery and bypassed with a 1uF X5R or X7R ceramic capacitor.", 17 SGND (power) "Ground for the Control Logic. This pin should be connected directly to a low impedance ground plane.", 18 RED (out) "Current Source Outputs for the RGB Illuminator LEDs. The currents for the RGB LEDs are controlled by the resistor on the IRGB pin. The RGB LEDs can independently be set to any duty cycle from 0/15 through 15/15 under (See Datasheet)", 19 GREEN (out) "Current Source Outputs for the RGB Illuminator LEDs. The currents for the RGB LEDs are controlled by the resistor on the IRGB pin. The RGB LEDs can independently be set to any duty cycle from 0/15 through 15/15 under (See Datasheet)", 20 BLUE (out) "Current Source Outputs for the RGB Illuminator LEDs. The currents for the RGB LEDs are controlled by the resistor on the IRGB pin. The RGB LEDs can independently be set to any duty cycle from 0/15 through 15/15 under (See Datasheet)", 21 SUB2 (out) "Current Source Outputs for the Sub Display White LEDs. The current for the sub display is controlled by the resistor on the IMS pin. The LEDs on the sub display can be set to 100%, 50%, 25% or 0% of full scale under software (See Datasheet)", 22 SUB1 (out) "Current Source Outputs for the Sub Display White LEDs. The current for the sub display is controlled by the resistor on the IMS pin. The LEDs on the sub display can be set to 100%, 50%, 25% or 0% of full scale under software (See Datasheet)", 23 MAIN4 (out) "Current Source Outputs for the Main Display White LEDs. The current for the main display is controlled by the resistor on the IMS pin. The LEDs on the main display can be set to 100%, 50%, 25% or 0% of full-scale programmed (See Datasheet)", 24 MAIN3 (out) "Current Source Outputs for the Main Display White LEDs. The current for the main display is controlled by the resistor on the IMS pin. The LEDs on the main display can be set to 100%, 50%, 25% or 0% of full-scale programmed (See Datasheet)", 25 EP (power) "Power Ground for the Charge Pump. The exposed pad should be connected directly to a low impedance ground plane."

## LTC3205EUF#TR
designator U?
Drives 4 Main LEDs, 2 Sub Display, 1 RGB, 2.8 to 4.5 V Vin, 4.5 V Vout MAX, 24-pin QFN (UF-24), -40 to 85 degC, Tape and Reel; Manufacturer: Linear Technology; PartNumber: LTC3205EUF#TR; Topology: Charge Pump, LED Driver; Vin Min(V): 2.8; PackageVersion: Rev. B, 02/2012; PackageReference: UF24; PackageDescription: 24-Pin Plastic QFN, Body 4 x 4 mm, Pitch 0.5 mm; Supplier 1: Digi-Key; Supplier Part Number 1: LTC3205EUF#TR-ND; Packing: Tape and Reel; RoHS: FALSE; Mounting Technology: Surface Mount; Code_JEDEC: MO-220; ComponentLink1Description: Manufacturer URL; ComponentLink1URL: http://www.linear.com/; ComponentLink2Description: Datasheet; ComponentLink2URL: http://cds.linear.com/docs/en/datasheet/3205f.pdf; ComponentLink3Description: Package Specification; ComponentLink3URL: http://cds.linear.com/docs/en/packaging/%28UF24%29%20QFN%2005-08-1697%20Rev%20B.pdf
footprint LT-UF-24_N (QFN, 24-Leads, Body 4.1x4.1mm, Pitch 0.5mm, Thermal Pad 2.45x2.45mm, IPC Medium Density)
footprint LT-UF-24_L (QFN, 24-Leads, Body 4.1x4.1mm, Pitch 0.5mm, Thermal Pad 2.45x2.45mm, IPC High Density)
footprint LT-UF-24_M (QFN, 24-Leads, Body 4.1x4.1mm, Pitch 0.5mm, Thermal Pad 2.45x2.45mm, IPC Low Density)
pins: 1 MAIN2 (out) "Current Source Outputs for the Main Display White LEDs. The current for the main display is controlled by the resistor on the IMS pin. The LEDs on the main display can be set to 100%, 50%, 25% or 0% of full-scale programmed (See Datasheet)", 2 MAIN1 (out) "Current Source Outputs for the Main Display White LEDs. The current for the main display is controlled by the resistor on the IMS pin. The LEDs on the main display can be set to 100%, 50%, 25% or 0% of full-scale programmed (See Datasheet)", 3 C2- "Charge Pump Flying Capacitor Pins. A 1uF X7R or X5R ceramic capacitor should be connected from C1+ to C1- and another from C2+ to C2-.", 4 C1- "Charge Pump Flying Capacitor Pins. A 1uF X7R or X5R ceramic capacitor should be connected from C1+ to C1- and another from C2+ to C2-.", 5 C1+ "Charge Pump Flying Capacitor Pins. A 1uF X7R or X5R ceramic capacitor should be connected from C1+ to C1- and another from C2+ to C2-.", 6 C2+ "Charge Pump Flying Capacitor Pins. A 1uF X7R or X5R ceramic capacitor should be connected from C1+ to C1- and another from C2+ to C2-.", 7 DIN (in) "Input Data for the 16-Bit Serial Port. Serial data is shifted in one bit per clock to control the LTC3205 (see Table 1). The logic level for DIN is referenced to DVCC.", 8 SCLK (in) "Clock Input for the 16-Bit Serial Port (see Figure 3). The logic level for SCLK is referenced to DVCC.", 9 ~{LD} (in) "Load Input for the 16-Bit Serial Port. Command data is loaded into the command latch on the falling edge of L\D\ (see Figure 3). The logic level for L\D\ is referenced to DVCC.", 10 ENRGB (in) "This pin is used to enable and disable the red, green and blue current sources. Once ENRGB is brought high, the LTC3205 illuminates the RGB display with the color combination that was previously programmed via the serial (See Datasheet)", 11 STEPUP (in) "A logic high on this pin forces the LTC3205’s charge pump to operate in 2:3 step-up mode, thereby eliminating any possibility of the device switching from 1:1 mode to 2:3 mode during critical communication periods. Th(See Datasheet)", 12 DVCC (power) "This pin sets the logic reference level of the LTC3205.", 13 IRGB (in) "This pin controls the amount of LED current at the RED, GREEN and BLUE LED pins. The IRGB pin servos to 1.223V when there is a resistor to ground. The current in the RED, GREEN and BLUE LEDs will be 400 times the current at (See Datasheet)", 14 IMS (in) "This pin controls the maximum amount of LED current in both the main and sub LED displays. The IMS pin servos to 1.223V when there is a resistor to ground. The currents in the main and sub display LEDs will be 100, 200 or (See Datasheet)", 15 CPO (power) "Output of the Charge Pump. This output should be used to power white, blue and "ture" green LEDs. Red LEDs can be powered from VIN or CPO. An X5R or X7R low impedance (ceramic) 1uF charge storage capacitor is required(See Datasheet)", 16 VIN (power) "Supply Voltage for the Charge Pump. The VIN pin should be connected directly to the battery and bypassed with a 1uF X5R or X7R ceramic capacitor.", 17 SGND (power) "Ground for the Control Logic. This pin should be connected directly to a low impedance ground plane.", 18 RED (out) "Current Source Outputs for the RGB Illuminator LEDs. The currents for the RGB LEDs are controlled by the resistor on the IRGB pin. The RGB LEDs can independently be set to any duty cycle from 0/15 through 15/15 under (See Datasheet)", 19 GREEN (out) "Current Source Outputs for the RGB Illuminator LEDs. The currents for the RGB LEDs are controlled by the resistor on the IRGB pin. The RGB LEDs can independently be set to any duty cycle from 0/15 through 15/15 under (See Datasheet)", 20 BLUE (out) "Current Source Outputs for the RGB Illuminator LEDs. The currents for the RGB LEDs are controlled by the resistor on the IRGB pin. The RGB LEDs can independently be set to any duty cycle from 0/15 through 15/15 under (See Datasheet)", 21 SUB2 (out) "Current Source Outputs for the Sub Display White LEDs. The current for the sub display is controlled by the resistor on the IMS pin. The LEDs on the sub display can be set to 100%, 50%, 25% or 0% of full scale under software (See Datasheet)", 22 SUB1 (out) "Current Source Outputs for the Sub Display White LEDs. The current for the sub display is controlled by the resistor on the IMS pin. The LEDs on the sub display can be set to 100%, 50%, 25% or 0% of full scale under software (See Datasheet)", 23 MAIN4 (out) "Current Source Outputs for the Main Display White LEDs. The current for the main display is controlled by the resistor on the IMS pin. The LEDs on the main display can be set to 100%, 50%, 25% or 0% of full-scale programmed (See Datasheet)", 24 MAIN3 (out) "Current Source Outputs for the Main Display White LEDs. The current for the main display is controlled by the resistor on the IMS pin. The LEDs on the main display can be set to 100%, 50%, 25% or 0% of full-scale programmed (See Datasheet)", 25 EP (power) "Power Ground for the Charge Pump. The exposed pad should be connected directly to a low impedance ground plane."